# Altium footprint library U-Transducer electric.PCBLIB: 1 footprints
Each footprint in its own frame and in the unit in brackets; x right, y up, seen from the top. Pads: shape width x height; smd on the part's side, far side on the other; paste and mask are expansions set on the pad; w line width, h text height; cw(c..) or ccw(c..) is an arc to the next point about the centre after c.
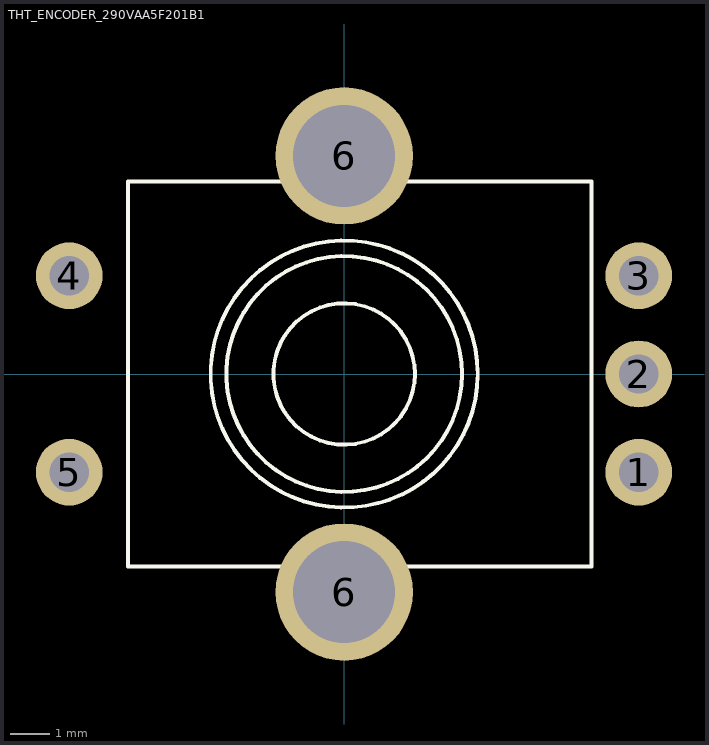
[diagram p0: the footprint, top view; thin cyan lines are the x and y axes]

## THT_ENCODER_290VAA5F201B1 [mm] "THT_ENCODER_290VAA5F201B1"
pads (7):
  round 1.7 hole 1: 1(7.5,-2.5) 2(7.5,0) 3(7.5,2.5) 4(-7,2.5) 5(-7,-2.5)
  round 3.5 hole 2.6: 6(0,-5.55) 6(0,5.55)
Top Overlay:
  circle w0.1: c0,0 r3
  circle w0.1: c0,0 r3.4
  circle w0.1: c0,0 r1.8
  lines w0.1: -5.5,-4.9 6.3,-4.9 6.3,4.9 -5.5,4.9 -5.5,-4.9